# Altium schematic symbol library TPA3118D2DAPR.SchLib: 1 symbol
Pins are listed as number, name and electrical type; pins without a type are passive.

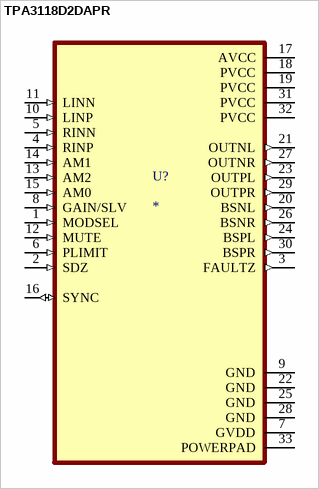
[diagram p0: symbol TPA3118D2DAPR]

## TPA3118D2DAPR
designator U?
30-W stereo, 60-W mono, 4.5- to 26-V supply, analog input Class-D audio amplifier; MF: Texas Instruments; MP: TPA3118D2DAPR; SnapEDA_Link: https://www.snapeda.com/parts/TPA3118D2DAPR/Texas+Instruments/view-part/?ref=snap; Package: HTSSOP-32 Texas Instruments; Value: *; Check_prices: https://www.snapeda.com/parts/TPA3118D2DAPR/Texas+Instruments/view-part/?ref=eda
footprint SOP65P810X120-33N
pins: 1 MODSEL (in), 2 SDZ (in), 3 FAULTZ (out), 4 RINP (in), 5 RINN (in), 6 PLIMIT (in), 7 GVDD (power), 8 GAIN/SLV (in), 9 GND (power), 10 LINP (in), 11 LINN (in), 12 MUTE (in), 13 AM2 (in), 14 AM1 (in), 15 AM0 (in), 16 SYNC (io), 17 AVCC (power), 18 PVCC (power), 19 PVCC (power), 20 BSNL (out), 21 OUTNL (out), 22 GND (power), 23 OUTPL (out), 24 BSPL (out), 25 GND (power), 26 BSNR (out), 27 OUTNR (out), 28 GND (power), 29 OUTPR (out), 30 BSPR (out), 31 PVCC (power), 32 PVCC (power), 33 POWERPAD (power)